# EAGLE library part CS8416 (library toslink)
192 kHz Digital Audio Interface Receiver
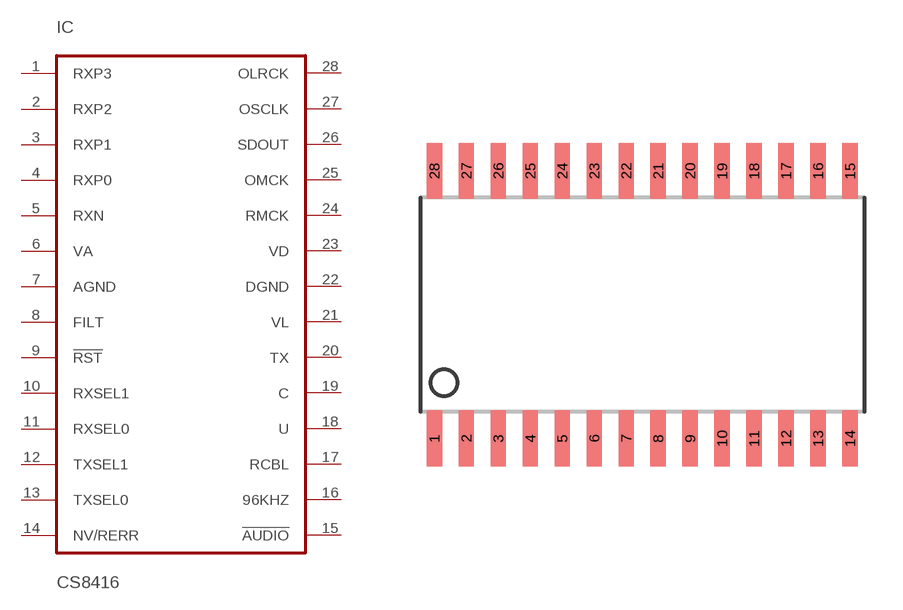
[diagram p0: symbol with the pads of SO28-3; footprint SO28-3]

Designator prefix IC

## CS8416  [SO28-3]
1  RXP3  in
2  RXP2  in
3  RXP1  in
4  RXP0  in
5  RXN  in
6  VA  pwr
7  AGND  pwr
8  FILT  out
9  !RST  in
10  RXSEL1  in
11  RXSEL0  in
12  TXSEL1  in
13  TXSEL0  in
14  NV/RERR  in
15  !AUDIO  in
16  96KHZ  in
17  RCBL
18  U  out
19  C  out
20  TX  out
21  VL  pwr
22  DGND  pwr
23  VD  pwr
24  RMCK  out
25  OMCK  in
26  SDOUT  out
27  OSCLK
28  OLRCK

## Footprint SO28-3 (pad centres in mm)
Small Outline Package
smd 0.61 x 2.21: 1 -8.255,-5.315; 2 -6.985,-5.315; 3 -5.715,-5.315; 4 -4.445,-5.315; 5 -3.175,-5.315; 6 -1.905,-5.315; 7 -0.635,-5.315; 8 0.635,-5.315; 9 1.905,-5.315; 10 3.175,-5.315; 11 4.445,-5.315; 12 5.715,-5.315; 13 6.985,-5.315; 14 8.255,-5.315; 15 8.255,5.315; 16 6.985,5.315; 17 5.715,5.315; 18 4.445,5.315; 19 3.175,5.315; 20 1.905,5.315; 21 0.635,5.315; 22 -0.635,5.315; 23 -1.905,5.315; 24 -3.175,5.315; 25 -4.445,5.315; 26 -5.715,5.315; 27 -6.985,5.315; 28 -8.255,5.315